# Altium footprint library ESD0524P.PcbLib: 1 footprints
Each footprint in its own frame and in the unit in brackets; x right, y up, seen from the top. Pads: shape width x height; smd on the part's side, far side on the other; paste and mask are expansions set on the pad; w line width, h text height; cw(c..) or ccw(c..) is an arc to the next point about the centre after c.
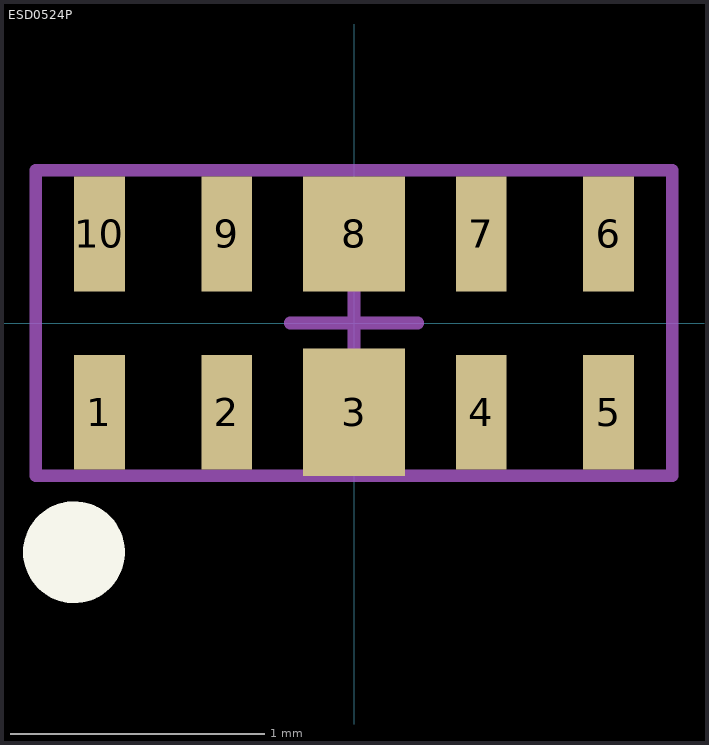
[diagram p0: the footprint, top view; thin cyan lines are the x and y axes]

## ESD0524P [mm]
height 0.6
pads (10):
  rect 0.2x0.45 smd: 1(-1,-0.35) 2(-0.5,-0.35) 4(0.5,-0.35) 5(1,-0.35) 6(1,0.35) 7(0.5,0.35) 9(-0.5,0.35) 10(-1,0.35)
  rect 0.4x0.5 smd: 3(0,-0.35)
  rect 0.4x0.45 smd: 8(0,0.35)
Top Overlay:
  circle w0.2: c-1.1,-0.9 r0.1
Mechanical 15:
  lines w0.05: -0.25,0 0.25,0 ; 0,-0.25 0,0.25 ; -1.25,-0.6 -1.25,0.6 1.25,0.6 1.25,-0.6 -1.25,-0.6
3D body: height 0.55, standoff -0.05, extent -1.25,-0.51 1.25,0.51